# Altium schematic symbol library 未分类IC.SchLib: 48 symbols
Pins are listed as number, name and electrical type; pins without a type are passive.

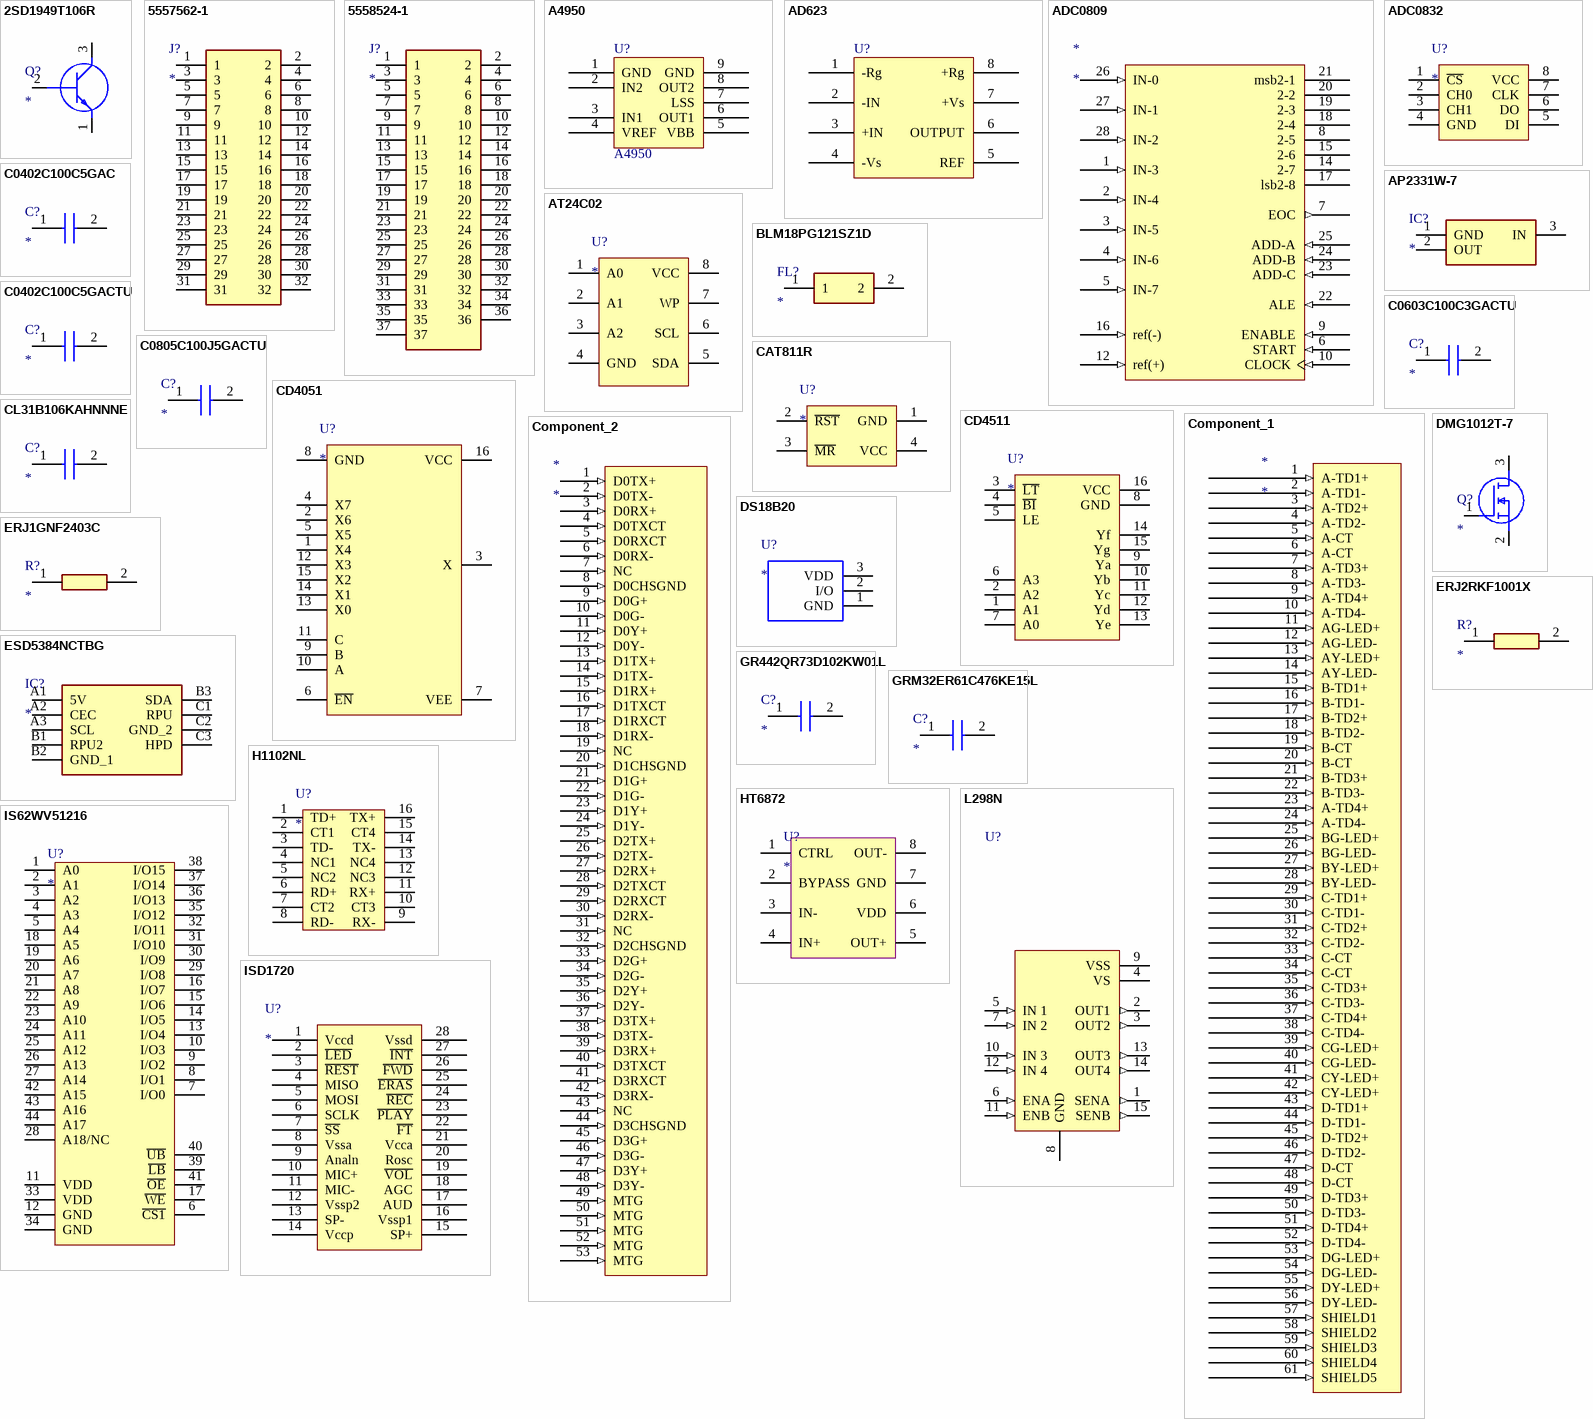
[diagram p0: symbols 2SD1949T106R to L298N]

## 2SD1949T106R
designator Q?
Transistor BJT NPN; Manufacturer_Name: ROHM Semiconductor; Manufacturer_Part_Number: 2SD1949T106R; Datasheet Link: http://www.rohm.com/web/global/datasheet/2SD1484K/2sd1484k-e; Height: 1mm; Mouser Part Number: 755-2SD1949T106R; Mouser Price/Stock: https://www.mouser.com/Search/ProductDetail.aspx?qs=4kLU8WoGk0uNHhUYULm2%252bA%3d%3d; RS Part Number: 8268459; RS Price/Stock: https://uk.rs-online.com/web/p/products/8268459
footprint SOT65P210X100-3N
pins: 1 E, 2 B, 3 C

## 5557562-1
designator J?
Connector; Manufacturer_Name: TE Connectivity; Manufacturer_Part_Number: 5557562-1; Allied_Number: 70042895; Datasheet Link: http://www.te.com/commerce/DocumentDelivery/DDEController?Action=showdoc&DocId=Customer+Drawing%7F5557562%7FA1%7Fpdf%7FEnglish%7FENG_CD_5557562_A1.pdf%7F5557562-1; Height: 13mm; Mouser Part Number: 571-5557562-1; Mouser Price/Stock: https://www.mouser.com/Search/Refine.aspx?Keyword=571-5557562-1; RS Part Number: 7950779; RS Price/Stock: http://uk.rs-online.com/web/p/products/7950779; Allied Price/Stock: https://www.alliedelec.com/te-connectivity-5557562-1/70042895/
footprint 55575621
pins: 1, 2, 3, 4, 5, 6, 7, 8, 9, 10, 11, 12, 13, 14, 15, 16, 17, 18, 19, 20, 21, 22, 23, 24, 25, 26, 27, 28, 29, 30, 31, 32

## 5558524-1
designator J?
Connector; Manufacturer_Name: TE Connectivity; Manufacturer_Part_Number: 5558524-1; Datasheet Link: http://uk.rs-online.com/web/p/products/1620785; Mouser Part Number: 571-5558524-1; Mouser Price/Stock: https://www.mouser.com/Search/Refine.aspx?Keyword=571-5558524-1; RS Part Number: 8208344; RS Price/Stock: http://uk.rs-online.com/web/p/products/8208344
footprint 5558524-1
pins: 1, 2, 3, 4, 5, 6, 7, 8, 9, 10, 11, 12, 13, 14, 15, 16, 17, 18, 19, 20, 21, 22, 23, 24, 25, 26, 27, 28, 29, 30, 31, 32, 33, 34, 35, 36, 37

## A4950
designator U?
footprint SOP8-PAD
pins: 1 GND, 2 IN2, 3 IN1, 4 VREF, 5 VBB, 6 OUT1, 7 LSS, 8 OUT2, 9 GND

## AD623
designator U?
footprint SOP8
pins: 1 -Rg, 2 -IN, 3 +IN, 4 -Vs, 5 REF, 6 OUTPUT, 7 +Vs, 8 +Rg

## ADC0809
designator *
footprint DIP28
footprint DIP28_SS (DIP28-SMD Socket)
pins: 1 IN-3 (in), 2 IN-4 (in), 3 IN-5 (in), 4 IN-6 (in), 5 IN-7 (in), 6 START (in), 7 EOC (out), 8 2-5 (hiz), 9 ENABLE (in), 10 CLOCK (in), 12 ref(+) (in), 14 2-7 (hiz), 15 2-6 (hiz), 16 ref(-) (in), 17 lsb2-8 (hiz), 18 2-4 (hiz), 19 2-3 (hiz), 20 2-2 (hiz), 21 msb2-1 (hiz), 22 ALE (in), 23 ADD-C (in), 24 ADD-B (in), 25 ADD-A (in), 26 IN-0 (in), 27 IN-1 (in), 28 IN-2 (in)

## ADC0832
designator U?
footprint DIP8
footprint DIP8_SS (DIP8-SMD Socket)
pins: 1 ~{CS}, 2 CH0, 3 CH1, 4 GND, 5 DI, 6 DO, 7 CLK, 8 VCC

## AP2331W-7
designator IC?
Integrated Circuit; Manufacturer_Name: Diodes Inc.; Manufacturer_Part_Number: AP2331W-7; Datasheet Link: https://componentsearchengine.com/Datasheets/1/AP2331W-7.pdf; Height: 1.3mm; Mouser Part Number: 621-AP2331W-7; Mouser Price/Stock: https://www.mouser.com/Search/Refine.aspx?Keyword=621-AP2331W-7; RS Part Number: 8287665P; RS Price/Stock: http://uk.rs-online.com/web/p/products/8287665P
footprint SOT95P285X130-3N
pins: 1 GND, 2 OUT, 3 IN

## AT24C02
designator U?
footprint DIP8
footprint DIP8_SS (DIP8-SMD Socket)
footprint SOP8
pins: 1 A0, 2 A1, 3 A2, 4 GND, 5 SDA, 6 SCL, 7 WP, 8 VCC

## BLM18PG121SZ1D
designator FL?
Filter; Manufacturer_Name: Murata Electronics; Manufacturer_Part_Number: BLM18PG121SZ1D; Datasheet Link: https://www.murata.com/en-us/products/productdetail?partno=BLM18PG121SZ1%23; Height: 0.95mm; Mouser Part Number: 81-BLM18PG121SZ1D; Mouser Price/Stock: https://www.mouser.com/Search/Refine.aspx?Keyword=81-BLM18PG121SZ1D
footprint BEADC1608X95N
pins: 1, 2

## C0402C100C5GAC
designator C?
Capacitor; Manufacturer_Name: Kemet; Manufacturer_Part_Number: C0402C100C5GAC; Datasheet Link: https://content.kemet.com/datasheets/KEM_C1002_X7R_SMD.pdf; Height: 0.55mm; Mouser Part Number: 80-C0402C100C5GAC; Mouser Price/Stock: https://www.mouser.com/Search/Refine.aspx?Keyword=80-C0402C100C5GAC
footprint CAPC1005X55N
pins: 1, 2

## C0402C100C5GACTU
designator C?
Capacitor; Manufacturer_Name: Kemet; Manufacturer_Part_Number: C0402C100C5GACTU; Datasheet Link: https://content.kemet.com/datasheets/KEM_C1002_X7R_SMD.pdf; Height: 0.55mm; Mouser Part Number: 80-C0402C100C5G; Mouser Price/Stock: https://www.mouser.com/Search/Refine.aspx?Keyword=80-C0402C100C5G; RS Part Number: 8849317; RS Price/Stock: http://uk.rs-online.com/web/p/products/8849317
footprint CAPC1005X55N
pins: 1, 2

## C0603C100C3GACTU
designator C?
Capacitor; Manufacturer_Name: Kemet; Manufacturer_Part_Number: C0603C100C3GACTU; Datasheet Link: https://content.kemet.com/datasheets/KEM_C1003_C0G_SMD.pdf; Height: 0.87mm; Mouser Part Number: 80-C0603C100C3G; Mouser Price/Stock: https://www.mouser.com/Search/Refine.aspx?Keyword=80-C0603C100C3G
footprint CAPC1608X87N
pins: 1, 2

## C0805C100J5GACTU
designator C?
Capacitor; Manufacturer_Name: Kemet; Manufacturer_Part_Number: C0805C100J5GACTU; Allied_Number: 70096882; Datasheet Link: http://www.mouser.com/ds/2/212/KEM_C1003_C0G_SMD-356956.pdf; Height: 0.88mm; Mouser Part Number: 80-C0805C100J5G; Mouser Price/Stock: https://www.mouser.com/Search/Refine.aspx?Keyword=80-C0805C100J5G; RS Part Number: 2644236P; RS Price/Stock: http://uk.rs-online.com/web/p/products/2644236P; Allied Price/Stock: https://www.alliedelec.com/kemet-c0805c100j5gactu/70096882/
footprint CAPC2012X88N
pins: 1, 2

## CAT811R
designator U?
footprint SOT143
pins: 1 GND, 2 ~{RST}, 3 ~{MR}, 4 VCC

## CD4051
designator U?
footprint DIP16_SS (DIP16-SMD Socket)
footprint DIP16
footprint SOP16
pins: 1 X4, 2 X6, 3 X, 4 X7, 5 X5, 6 ~{EN}, 7 VEE, 8 GND, 9 B, 10 A, 11 C, 12 X3, 13 X0, 14 X1, 15 X2, 16 VCC

## CD4511
designator U?
footprint DIP16
footprint DIP16_SS (DIP16-SMD Socket)
footprint SOP16
pins: 1 A1, 2 A2, 3 ~{LT}, 4 ~{BI}, 5 LE, 6 A3, 7 A0, 8 GND, 9 Ya, 10 Yb, 11 Yc, 12 Yd, 13 Ye, 14 Yf, 15 Yg, 16 VCC

## CL31B106KAHNNNE
designator C?
Capacitor; Manufacturer_Name: Samsung Electro-Mechanics; Manufacturer_Part_Number: CL31B106KAHNNNE; Datasheet Link: http://www.samsungsem.com/kr/support/product-search/mlcc/CL31B106KAHNNNE.jsp; Height: 1.8mm; RS Part Number: 7666773; RS Price/Stock: http://uk.rs-online.com/web/p/products/7666773
footprint CAPC3216X180N
pins: 1, 2

## Component_1
designator *
pins: 1 A-TD1+ (in), 2 A-TD1- (in), 3 A-TD2+ (in), 4 A-TD2- (in), 5 A-CT (in), 6 A-CT (in), 7 A-TD3+ (in), 8 A-TD3- (in), 9 A-TD4+ (in), 10 A-TD4- (in), 11 AG-LED+ (in), 12 AG-LED- (in), 13 AY-LED+ (in), 14 AY-LED- (in), 15 B-TD1+ (in), 16 B-TD1- (in), 17 B-TD2+ (in), 18 B-TD2- (in), 19 B-CT (in), 20 B-CT (in), 21 B-TD3+ (in), 22 B-TD3- (in), 23 A-TD4+ (in), 24 A-TD4- (in), 25 BG-LED+ (in), 26 BG-LED- (in), 27 BY-LED+ (in), 28 BY-LED- (in), 29 C-TD1+ (in), 30 C-TD1- (in), 31 C-TD2+ (in), 32 C-TD2- (in), 33 C-CT (in), 34 C-CT (in), 35 C-TD3+ (in), 36 C-TD3- (in), 37 C-TD4+ (in), 38 C-TD4- (in), 39 CG-LED+ (in), 40 CG-LED- (in), 41 CY-LED+ (in), 42 CY-LED+ (in), 43 D-TD1+ (in), 44 D-TD1- (in), 45 D-TD2+ (in), 46 D-TD2- (in), 47 D-CT (in), 48 D-CT (in), 49 D-TD3+ (in), 50 D-TD3- (in), 51 D-TD4+ (in), 52 D-TD4- (in), 53 DG-LED+ (in), 54 DG-LED- (in), 55 DY-LED+ (in), 56 DY-LED- (in), 57 SHIELD1 (in), 58 SHIELD2 (in), 59 SHIELD3 (in), 60 SHIELD4 (in), 61 SHIELD5 (in)

## Component_2
designator *
pins: 1 D0TX+ (in), 2 D0TX- (in), 3 D0RX+ (in), 4 D0TXCT (in), 5 D0RXCT (in), 6 D0RX- (in), 7 NC (in), 8 D0CHSGND (in), 9 D0G+ (in), 10 D0G- (in), 11 D0Y+ (in), 12 D0Y- (in), 13 D1TX+ (in), 14 D1TX- (in), 15 D1RX+ (in), 16 D1TXCT (in), 17 D1RXCT (in), 18 D1RX- (in), 19 NC (in), 20 D1CHSGND (in), 21 D1G+ (in), 22 D1G- (in), 23 D1Y+ (in), 24 D1Y- (in), 25 D2TX+ (in), 26 D2TX- (in), 27 D2RX+ (in), 28 D2TXCT (in), 29 D2RXCT (in), 30 D2RX- (in), 31 NC (in), 32 D2CHSGND (in), 33 D2G+ (in), 34 D2G- (in), 35 D2Y+ (in), 36 D2Y- (in), 37 D3TX+ (in), 38 D3TX- (in), 39 D3RX+ (in), 40 D3TXCT (in), 41 D3RXCT (in), 42 D3RX- (in), 43 NC (in), 44 D3CHSGND (in), 45 D3G+ (in), 46 D3G- (in), 47 D3Y+ (in), 48 D3Y- (in), 49 MTG (in), 50 MTG (in), 51 MTG (in), 52 MTG (in), 53 MTG (in)

## DMG1012T-7
designator Q?
MOSFET (N-Channel); Manufacturer_Name: Diodes Inc.; Manufacturer_Part_Number: DMG1012T-7; Allied_Number: 71028111; Datasheet Link: https://www.diodes.com/assets/Datasheets/ds31783.pdf; Height: 0.8mm; Mouser Part Number: 621-DMG1012T-7; Mouser Price/Stock: https://www.mouser.com/Search/Refine.aspx?Keyword=621-DMG1012T-7; RS Part Number: 7514064P; RS Price/Stock: http://uk.rs-online.com/web/p/products/7514064P; Allied Price/Stock: https://www.alliedelec.com/diodes-inc-dmg1012t-7/71028111/
footprint SOT50P160X80-3N
pins: 1 G, 2 S, 3 D

## DS18B20
designator U?
pins: 1 GND, 2 I/O, 3 VDD

## ERJ1GNF2403C
designator R?
Resistor; Manufacturer_Name: Panasonic; Manufacturer_Part_Number: ERJ1GNF2403C; Datasheet Link: https://industrial.panasonic.com/cdbs/www-data/pdf/RDA0000/AOA0000C84.pdf; Height: 0.26mm
footprint RESC0603X26N
pins: 1, 2

## ERJ2RKF1001X
designator R?
Resistor; Manufacturer_Name: Panasonic; Manufacturer_Part_Number: ERJ2RKF1001X; Allied_Number: 70265092; Datasheet Link: http://docs-europe.electrocomponents.com/webdocs/13ba/0900766b813ba21b.pdf; Height: 0.4mm; RS Part Number: 7325242; RS Price/Stock: http://uk.rs-online.com/web/p/products/7325242; Allied Price/Stock: https://www.alliedelec.com/panasonic-erj-2rkf1001x/70265092/
footprint RESC1005X40N
pins: 1, 2

## ESD5384NCTBG
designator IC?
Integrated Circuit; Manufacturer_Name: ON Semiconductor; Manufacturer_Part_Number: ESD5384NCTBG; Allied_Number: 70466034; Datasheet Link: http://www.onsemi.com/pub/Collateral/ESD5384-D.PDF; Height: 0.63mm; Mouser Part Number: 863-ESD5384NCTBG; Mouser Price/Stock: https://www.mouser.com/Search/Refine.aspx?Keyword=863-ESD5384NCTBG; RS Part Number: 8010213P; RS Price/Stock: http://uk.rs-online.com/web/p/products/8010213P; Allied Price/Stock: http://www.alliedelec.com/on-semiconductor-esd5384nctbg/70466034/
footprint BGA9C40P3X3_114X114X63
pins: A1 5V, A2 CEC, A3 SCL, B1 RPU2, B2 GND_1 (power), B3 SDA, C1 RPU, C2 GND_2 (power), C3 HPD

## GR442QR73D102KW01L
designator C?
Capacitor; Manufacturer_Name: Murata Electronics; Manufacturer_Part_Number: GR442QR73D102KW01L; Datasheet Link: https://componentsearchengine.com/Datasheets/2/GR442QR73D102KW01L.pdf; Height: 1.5mm; Mouser Part Number: 81-GR442QR73D102KW01; Mouser Price/Stock: https://www.mouser.com/Search/Refine.aspx?Keyword=81-GR442QR73D102KW01; RS Part Number: 7236969P; RS Price/Stock: http://uk.rs-online.com/web/p/products/7236969P
footprint CAPC4520X150N
pins: 1, 2

## GRM32ER61C476KE15L
designator C?
Capacitor; Manufacturer_Name: Murata Electronics; Manufacturer_Part_Number: GRM32ER61C476KE15L; Datasheet Link: http://psearch.en.murata.com/capacitor/product/GRM32ER71E226KE15%23.pdf; Height: 2.7mm; Mouser Part Number: 81-GRM32ER61C476KE5L; Mouser Price/Stock: https://www.mouser.com/Search/Refine.aspx?Keyword=81-GRM32ER61C476KE5L; RS Part Number: 7236795P; RS Price/Stock: http://uk.rs-online.com/web/p/products/7236795P
footprint CAPC3225X270N
pins: 1, 2

## H1102NL
designator U?
pins: 1 TD+, 2 CT1, 3 TD-, 4 NC1, 5 NC2, 6 RD+, 7 CT2, 8 RD-, 9 RX-, 10 CT3, 11 RX+, 12 NC3, 13 NC4, 14 TX-, 15 CT4, 16 TX+

## HT6872
designator U?
footprint SOP8
pins: 1 CTRL, 2 BYPASS, 3 IN-, 4 IN+, 5 OUT+, 6 VDD, 7 GND, 8 OUT-

## IS62WV51216
designator U?
footprint TSOP44
pins: 1 A0, 2 A1, 3 A2, 4 A3, 5 A4, 6 ~{CS1}, 7 I/O0, 8 I/O1, 9 I/O2, 10 I/O3, 11 VDD, 12 GND, 13 I/O4, 14 I/O5, 15 I/O6, 16 I/O7, 17 ~{WE}, 18 A5, 19 A6, 20 A7, 21 A8, 22 A9, 23 A10, 24 A11, 25 A12, 26 A13, 27 A14, 28 A18/NC, 29 I/O8, 30 I/O9, 31 I/O10, 32 I/O11, 33 VDD, 34 GND, 35 I/O12, 36 I/O13, 37 I/O14, 38 I/O15, 39 ~{LB}, 40 ~{UB}, 41 ~{OE}, 42 A15, 43 A16, 44 A17

## ISD1720
designator U?
footprint DIP28
footprint DIP28_SS (DIP28-SMD Socket)
pins: 1 Vccd, 2 ~{LED}, 3 ~{REST}, 4 MISO, 5 MOSI, 6 SCLK, 7 ~{SS}, 8 Vssa, 9 Analn, 10 MIC+, 11 MIC-, 12 Vssp2, 13 SP-, 14 Vccp, 15 SP+, 16 Vssp1, 17 AUD, 18 AGC, 19 ~{VOL}, 20 Rosc, 21 Vcca, 22 ~{FT}, 23 ~{PLAY}, 24 ~{REC}, 25 ~{ERAS}, 26 ~{FWD}, 27 ~{INT}, 28 Vssd

## L298N
designator U?
MOTO DEVICE
footprint L298N
footprint L298N散热片
pins: 1 SENA (out), 2 OUT1 (out), 3 OUT2 (out), 4 VS (power), 5 IN 1 (in), 6 ENA (in), 7 IN 2 (in), 8 GND (power), 9 VSS (power), 10 IN 3 (in), 11 ENB (in), 12 IN 4 (in), 13 OUT3 (out), 14 OUT4 (out), 15 SENB (out)

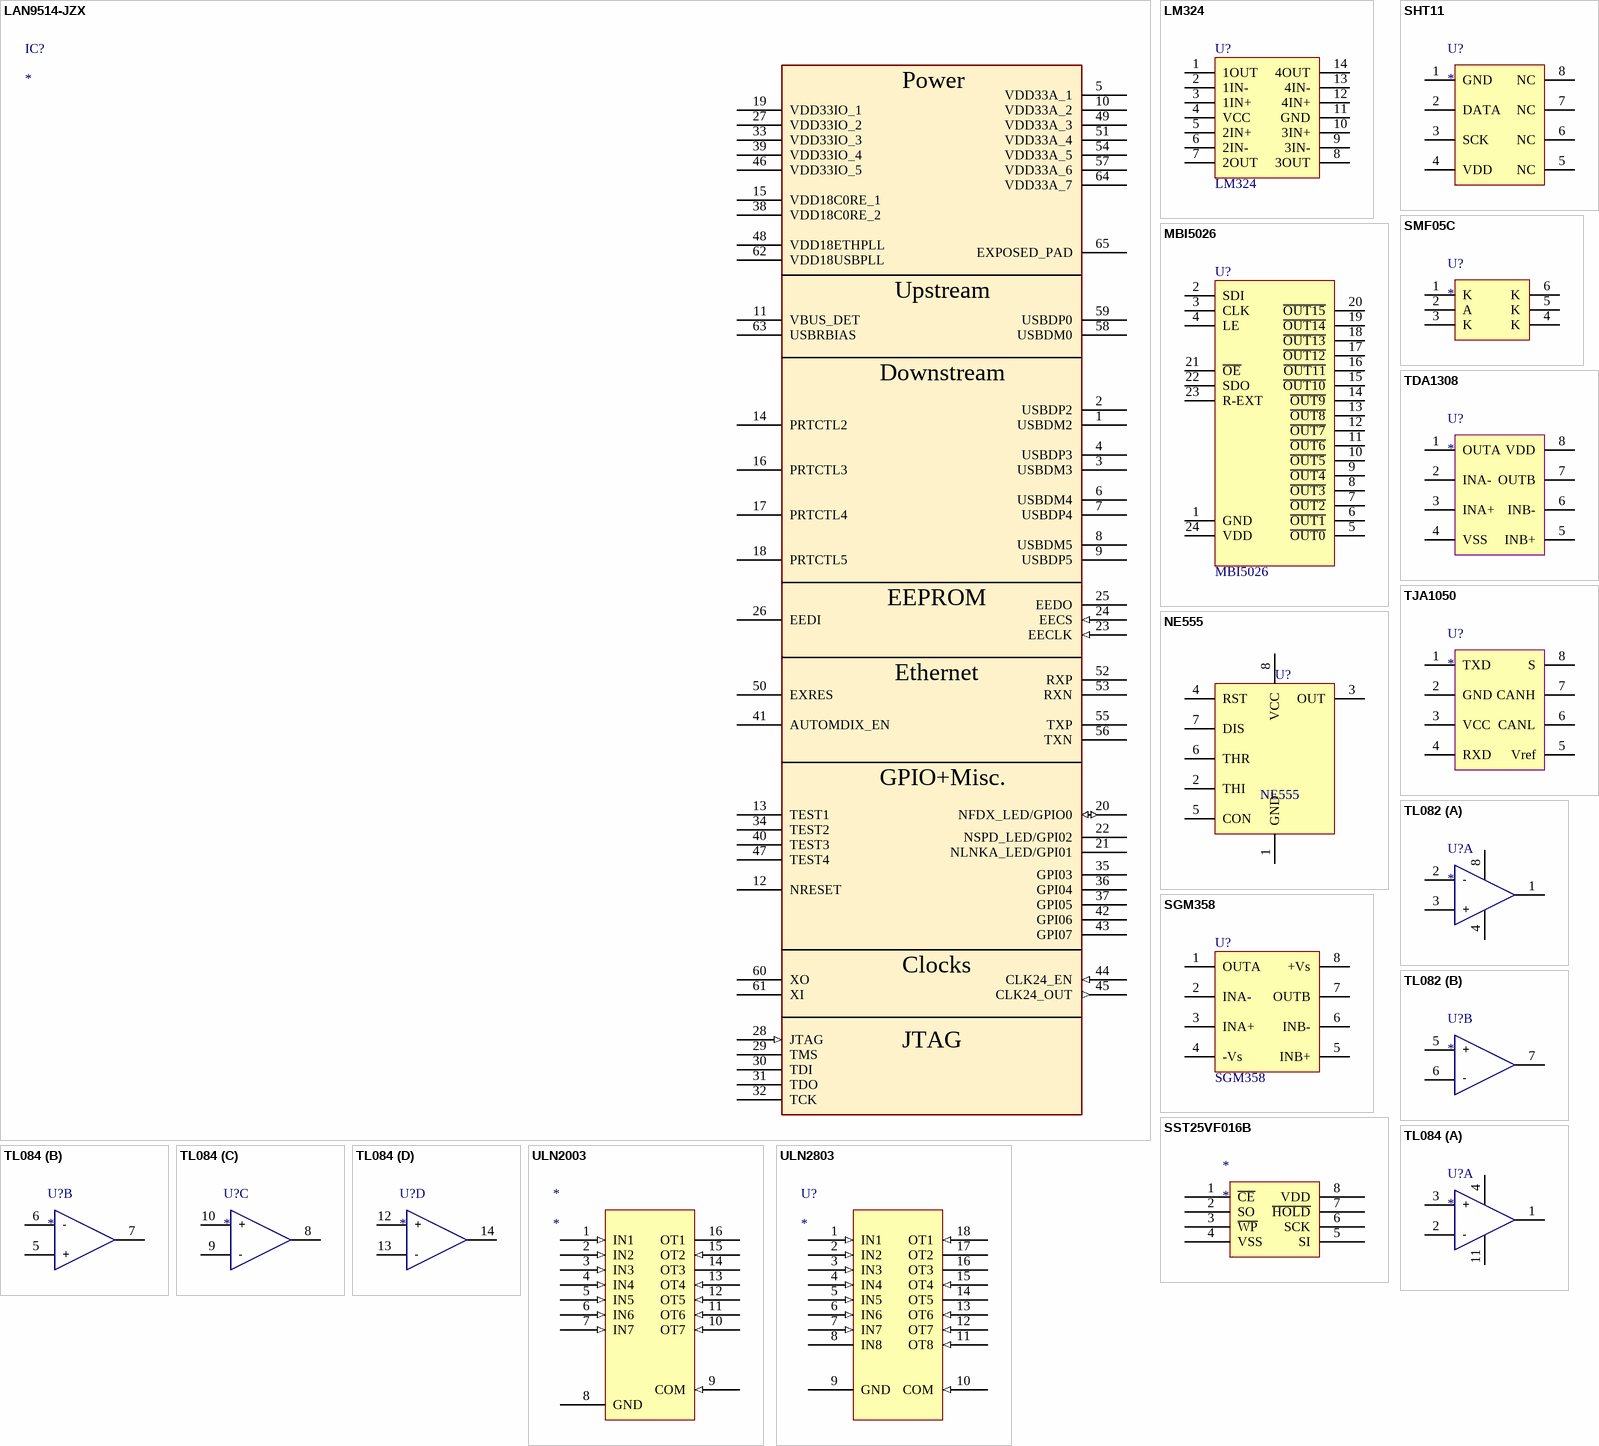
[diagram p1: symbols LAN9514-JZX to ULN2803]

## LAN9514-JZX
designator IC?
USB2.0 Hub 10/100Mbps Controller QFN64; Manufacturer_Name: Microchip; Manufacturer_Part_Number: LAN9514-JZX; Allied_Number: 70414988; Datasheet Link: http://docs-emea.rs-online.com/webdocs/11a5/0900766b811a553b.pdf; Height: 1mm; Mouser Part Number: 886-LAN9514-JZX; Mouser Price/Stock: https://www.mouser.com/Search/Refine.aspx?Keyword=886-LAN9514-JZX; RS Part Number: 7729610P; RS Price/Stock: http://uk.rs-online.com/web/p/products/7729610P; Allied Price/Stock: http://www.alliedelec.com/microchip-technology-inc-lan9514-jzx/70414988/
footprint QFN50P900X900X100-65N-D
pins: 1 USBDM2, 2 USBDP2, 3 USBDM3, 4 USBDP3, 5 VDD33A_1 (power), 6 USBDM4, 7 USBDP4, 8 USBDM5, 9 USBDP5, 10 VDD33A_2 (power), 11 VBUS_DET, 12 NRESET, 13 TEST1, 14 PRTCTL2, 15 VDD18C0RE_1 (power), 16 PRTCTL3, 17 PRTCTL4, 18 PRTCTL5, 19 VDD33IO_1 (power), 20 NFDX_LED/GPIO0 (io), 21 NLNKA_LED/GPI01, 22 NSPD_LED/GPI02, 23 EECLK (in), 24 EECS (in), 25 EEDO, 26 EEDI, 27 VDD33IO_2 (power), 28 JTAG (in), 29 TMS, 30 TDI, 31 TDO, 32 TCK, 33 VDD33IO_3 (power), 34 TEST2, 35 GPI03, 36 GPI04, 37 GPI05, 38 VDD18C0RE_2 (power), 39 VDD33IO_4 (power), 40 TEST3, 41 AUTOMDIX_EN, 42 GPI06, 43 GPI07, 44 CLK24_EN (in), 45 CLK24_OUT (out), 46 VDD33IO_5 (power), 47 TEST4, 48 VDD18ETHPLL (power), 49 VDD33A_3 (power), 50 EXRES, 51 VDD33A_4 (power), 52 RXP, 53 RXN, 54 VDD33A_5 (power), 55 TXP, 56 TXN, 57 VDD33A_6 (power), 58 USBDM0, 59 USBDP0, 60 XO, 61 XI, 62 VDD18USBPLL (power), 63 USBRBIAS, 64 VDD33A_7 (power), 65 EXPOSED_PAD
text: Power; Upstream; Downstream; EEPROM; Ethernet; GPIO+Misc.; Clocks

## LM324
designator U?
footprint DIP14
footprint DIP14_SS (DIP14-SMD Socket)
footprint SOP14
pins: 1 1OUT, 2 1IN-, 3 1IN+, 4 VCC, 5 2IN+, 6 2IN-, 7 2OUT, 8 3OUT, 9 3IN-, 10 3IN+, 11 GND, 12 4IN+, 13 4IN-, 14 4OUT

## MBI5026
designator U?
footprint SOP24
pins: 1 GND, 2 SDI, 3 CLK, 4 LE, 5 ~{OUT0}, 6 ~{OUT1}, 7 ~{OUT2}, 8 ~{OUT3}, 9 ~{OUT4}, 10 ~{OUT5}, 11 ~{OUT6}, 12 ~{OUT7}, 13 ~{OUT8}, 14 ~{OUT9}, 15 ~{OUT10}, 16 ~{OUT11}, 17 ~{OUT12}, 18 ~{OUT13}, 19 ~{OUT14}, 20 ~{OUT15}, 21 ~{OE}, 22 SDO, 23 R-EXT, 24 VDD

## NE555
designator U?
footprint DIP8
footprint DIP8_SS (DIP8-SMD Socket)
footprint SOP8
pins: 1 GND, 2 THI, 3 OUT, 4 RST, 5 CON, 6 THR, 7 DIS, 8 VCC

## SGM358
designator U?
footprint SOP8 (5*6*1.8mm（长宽高）)
pins: 1 OUTA, 2 INA-, 3 INA+, 4 -Vs, 5 INB+, 6 INB-, 7 OUTB, 8 +Vs

## SHT11
designator U?
footprint SHT11
pins: 1 GND, 2 DATA, 3 SCK, 4 VDD, 5 NC, 6 NC, 7 NC, 8 NC

## SMF05C
designator U?
footprint SOT363
pins: 1 K, 2 A, 3 K, 4 K, 5 K, 6 K

## SST25VF016B
designator *
footprint SOP8_W
pins: 1 ~{CE}, 2 SO, 3 ~{WP}, 4 VSS, 5 SI, 6 SCK, 7 ~{HOLD}, 8 VDD

## TDA1308
designator U?
footprint SOP8
pins: 1 OUTA, 2 INA-, 3 INA+, 4 VSS, 5 INB+, 6 INB-, 7 OUTB, 8 VDD

## TJA1050
designator U?
footprint SOP8
pins: 1 TXD, 2 GND, 3 VCC, 4 RXD, 5 Vref, 6 CANL, 7 CANH, 8 S

## TL082
designator U?
footprint DIP8
footprint DIP8_SS (DIP8-SMD Socket)
footprint SOP8
part A pins: 1, 2, 3, 4 VCC-, 8 VCC+
part B pins: 5, 6, 7
part A text: -; +
part B text: +; -

## TL084
designator U?
footprint DIP14
footprint DIP14_SS (DIP14-SMD Socket)
footprint SOP14
part A pins: 1, 2, 3, 4 VCC+, 11 VCC-
part B pins: 5, 6, 7
part C pins: 8, 9, 10
part D pins: 12, 13, 14
part A text: +; -
part B text: -; +
part C text: +; -
part D text: +; -

## ULN2003
designator *
footprint DIP16
footprint DIP16_SS (DIP16-SMD Socket)
footprint SOP16
pins: 1 IN1 (in), 2 IN2 (in), 3 IN3 (in), 4 IN4 (in), 5 IN5 (in), 6 IN6 (in), 7 IN7 (in), 8 GND (power), 9 COM (in), 10 OT7 (in), 11 OT6 (in), 12 OT5 (in), 13 OT4 (in), 14 OT3 (hiz), 15 OT2 (in), 16 OT1 (power)

## ULN2803
designator U?
footprint SOP18
footprint DIP18_SS (DIP18-SMD Socket)
pins: 1 IN1 (in), 2 IN2 (in), 3 IN3 (in), 4 IN4 (in), 5 IN5 (in), 6 IN6 (in), 7 IN7 (in), 8 IN8, 9 GND (power), 10 COM (in), 11 OT8 (in), 12 OT7 (in), 13 OT6 (in), 14 OT5 (hiz), 15 OT4 (in), 16 OT3 (power), 17 OT2, 18 OT1 (in)

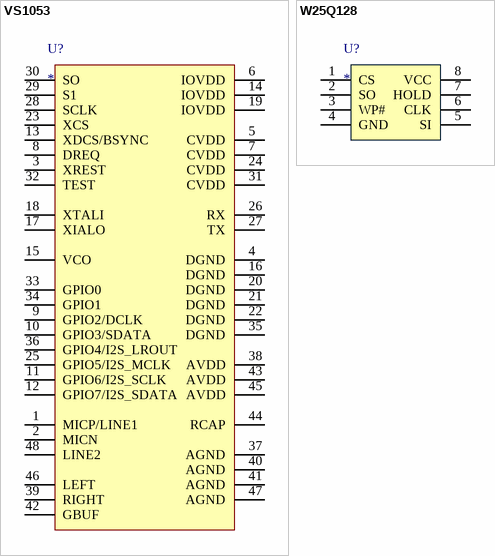
[diagram p2: symbols VS1053 to W25Q128]

## VS1053
designator U?
footprint TQFP48
pins: 1 MICP/LINE1, 2 MICN, 3 XREST, 4 DGND, 5 CVDD, 6 IOVDD, 7 CVDD, 8 DREQ, 9 GPIO2/DCLK, 10 GPIO3/SDATA, 11 GPIO6/I2S_SCLK, 12 GPIO7/I2S_SDATA, 13 XDCS/BSYNC, 14 IOVDD, 15 VCO, 16 DGND, 17 XIALO, 18 XTALI, 19 IOVDD, 20 DGND, 21 DGND, 22 DGND, 23 XCS, 24 CVDD, 25 GPIO5/I2S_MCLK, 26 RX, 27 TX, 28 SCLK, 29 S1, 30 SO, 31 CVDD, 32 TEST, 33 GPIO0, 34 GPIO1, 35 DGND, 36 GPIO4/I2S_LROUT, 37 AGND, 38 AVDD, 39 RIGHT, 40 AGND, 41 AGND, 42 GBUF, 43 AVDD, 44 RCAP, 45 AVDD, 46 LEFT, 47 AGND, 48 LINE2

## W25Q128
designator U?
footprint SOIC8
pins: 1 CS, 2 SO, 3 WP#, 4 GND, 5 SI, 6 CLK, 7 HOLD, 8 VCC